# Altium schematic symbol library pir_connector_schematic.SchLib: 1 symbol
Pins are listed as number, name and electrical type; pins without a type are passive.

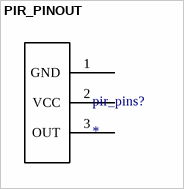
[diagram p0: symbol PIR_PINOUT]

## PIR_PINOUT
designator pir_pins?
pins: 1 GND, 2 VCC, 3 OUT